# Altium schematic symbol library TCM1-382WX+.SchLib: 1 symbol
Pins are listed as number, name and electrical type; pins without a type are passive.

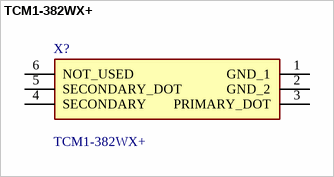
[diagram p0: symbol TCM1-382WX+]

## TCM1-382WX+
designator X?
Audio Transformers / Signal Transformers 1:1 CORE & WIRE Transformer, 0.5 - 3800 MHz, 50?; Manufacturer_Name: Mini-Circuits; Geometry.Height: 4.06mm; Mouser Part Number: 139-TCM1-382WX; Mouser Price/Stock: https://www.mouser.co.uk/ProductDetail/Mini-Circuits/TCM1-382WX%2b?qs=amGC7iS6iy9TpOSpP5xMJQ%3D%3D; Manufacturer_Part_Number: TCM1-382WX+; Datasheet Link: https://www.mouser.kr/datasheet/2/1030/TCM1_382WX_2b-3105014.pdf
footprint TCM1382WX
pins: 1 GND_1, 2 GND_2, 3 PRIMARY_DOT, 4 SECONDARY, 5 SECONDARY_DOT, 6 NOT_USED